# Altium footprint library PTC Fuse 1206.PcbLib: 1 footprints
Each footprint in its own frame and in the unit in brackets; x right, y up, seen from the top. Pads: shape width x height; smd on the part's side, far side on the other; paste and mask are expansions set on the pad; w line width, h text height; cw(c..) or ccw(c..) is an arc to the next point about the centre after c.
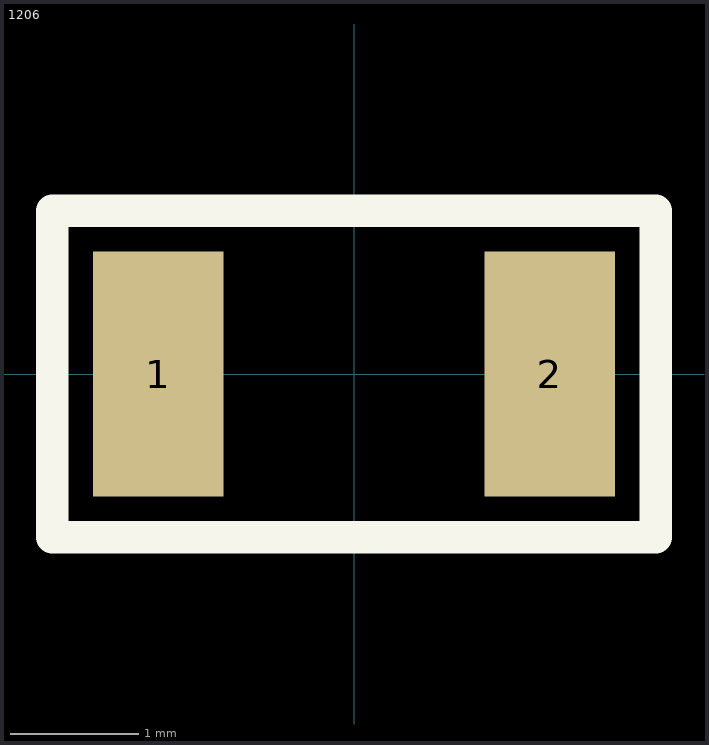
[diagram p0: the footprint, top view; thin cyan lines are the x and y axes]

## 1206 [mil]
pads (2):
  rect 40x75 smd: 1(-60,0) 2(60,0)
Top Overlay:
  lines w10: -92.5,-50 92.5,-50 92.5,50 -92.5,50 -92.5,0 -92.5,-50